# EAGLE library part PANA_EVJC (library audio-pots)
Panasonic EVJC Dual-gang 12mm potentiometer for volume and tone control Several resistances, tapers and mounting styles available
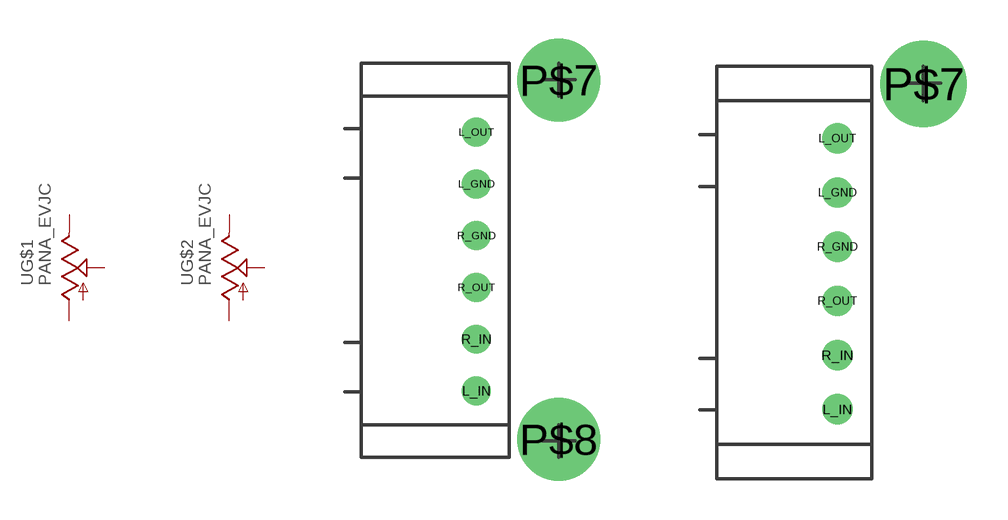
[diagram p0: symbol with the pads of PANA_EVJC_2; footprints PANA_EVJC_2, PANA_EVJC_1]

Designator prefix -; gates G$1=POT G$2=POT

## PANA_EVJCBOTH  [PANA_EVJC_2]
L_GND  G$1:1  pas
L_IN  G$1:3  pas
L_OUT  G$1:2  pas
R_GND  G$2:1  pas
R_IN  G$2:3  pas
R_OUT  G$2:2  pas

## PANA_EVJCLEFT_ONLY  [PANA_EVJC_1]
Pads as for PANA_EVJC_2

## Footprint PANA_EVJC_2 (pad centres in mm)
Panasonic EVJ-C series, both mounting holes present
drill 0.61 round: L_GND 0,2.95; L_IN 0,-5.05; L_OUT 0,4.95; R_GND 0,0.95; R_IN 0,-3.05; R_OUT 0,-1.05
drill 2.184 round: P$7 3.173,6.958; P$8 3.173,-6.918

## Footprint PANA_EVJC_1 (pad centres in mm)
Panasonic EVJ-C series, with left side mounting bracket only
drill 0.61 round: L_GND 1.27,2.95; L_IN 1.27,-5.05; L_OUT 1.27,4.95; R_GND 1.27,0.95; R_IN 1.27,-3.05; R_OUT 1.27,-1.05
drill 2.184 round: P$7 4.443,6.958